# Altium schematic symbol library circuithub-d577e478ade498f96bdf1b95dc84fb02b31aeb45.SchLib: 2 symbols
Pins are listed as number, name and electrical type; pins without a type are passive.

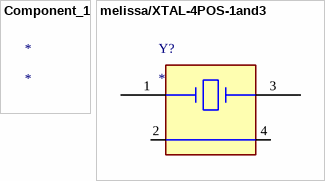
[diagram p0: symbols Component_1 to melissa/XTAL-4POS-1and3]

## Component_1
designator *

## melissa/XTAL-4POS-1and3
designator Y?
Imported
pins: 1 A, 2 DNC0, 3 DNC1, 4 B